# EAGLE library part SDCARD_TE (library pbxl)
TE CONNECTIVITY 2041021-3 CONNECTOR, SD, PUSH PULL, SMT, R/A Created by Jozsef Kovacs RobotSzoft Kft
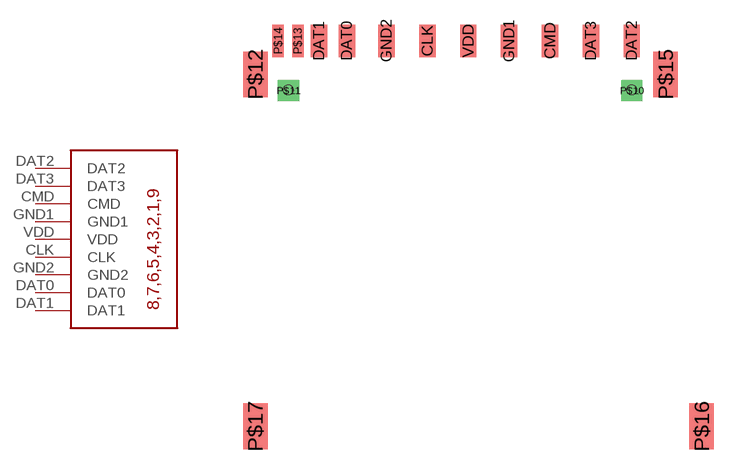
[diagram p2: symbol with the pads of SDCARD_TE; footprint SDCARD_TE]

Designator prefix -

## SDCARD_TE  [SDCARD_TE]
CLK  CLK
CMD  CMD
DAT0  DAT0
DAT1  DAT1
DAT2  DAT2
DAT3  DAT3
GND1  GND1
GND2  GND2
VDD  VDD

## Footprint SDCARD_TE (pad centres in mm)
smd 1 x 2: CLK -12.5,1; CMD -5,1; DAT0 -17.425,1; DAT1 -19.125,1; DAT2 0,1; DAT3 -2.5,1; GND1 -7.5,1; GND2 -15,1; VDD -10,1
drill 0.8 square: P$10 0,-2.05; P$11 -21,-2.05
smd 1.5 x 2.8: P$12 -23.025,-1.05; P$15 2.075,-1.05; P$16 4.275,-22.6; P$17 -23.025,-22.6
smd 0.7 x 2: P$13 -20.425,1; P$14 -21.625,1
hole 0.6 at -21,-2
hole 0.6 at 0,-2